# Altium footprint library RESC102X35X55L22N.PcbLib: 1 footprints
Each footprint in its own frame and in the unit in brackets; x right, y up, seen from the top. Pads: shape width x height; smd on the part's side, far side on the other; paste and mask are expansions set on the pad; w line width, h text height; cw(c..) or ccw(c..) is an arc to the next point about the centre after c.
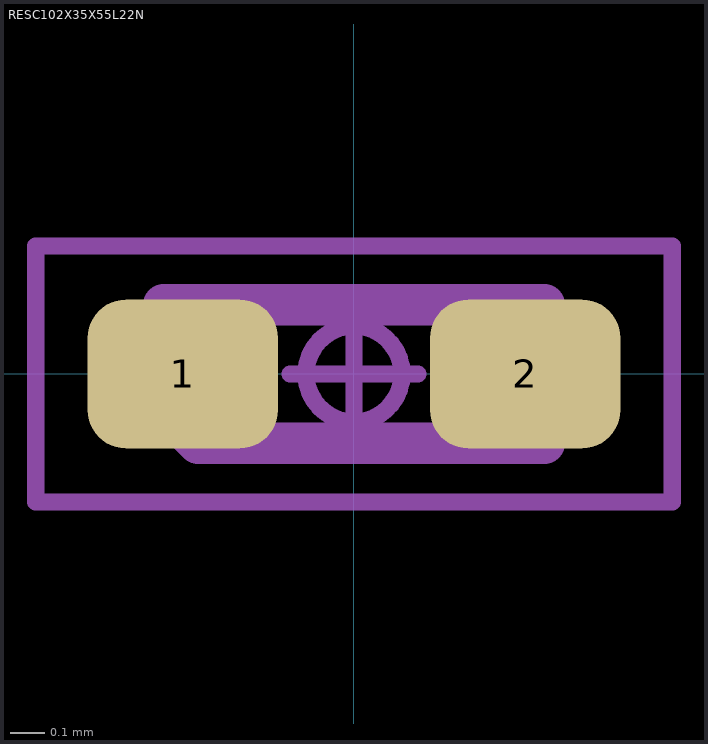
[diagram p0: the footprint, top view; thin cyan lines are the x and y axes]

## RESC102X35X55L22N [mm] "Resistor, Chip; 1.025 mm L X 0.35 mm W X 0.55 mm H body"
height 0.55
pads (2):
  rrect51% 0.55x0.43 smd: 1(-0.495,0) 2(0.495,0)
Mechanical 3:
  lines w0.12: -0.55,-0.1 -0.55,0.2 0.55,0.2 0.55,-0.2 -0.45,-0.2 -0.55,-0.1
Mechanical 5:
  lines w0.025: -0.513,-0.175 0.513,-0.175 ; -0.513,-0.175 -0.513,0.175 ; -0.513,-0.175 -0.513,0.175 ; -0.513,-0.175 -0.288,-0.175 -0.288,0.175 -0.513,0.175 ; -0.513,0.175 0.513,0.175 ; 0.513,-0.175 0.513,0.175 ; 0.513,-0.175 0.288,-0.175 0.288,0.175 0.513,0.175 ; 0.513,-0.175 0.513,0.175
Mechanical 7:
  circle w0.05: c0,0 r0.139
  lines w0.05: -0.185,0 0.185,0 ; 0,-0.185 0,0.185 ; -0.92,-0.37 0.92,-0.37 0.92,0.37 -0.92,0.37 -0.92,-0.37
Mechanical 9:
  text "'.Designator'" at -5.255,-0.229 h1
3D body: height 2, standoff 0.05, extent -0.925,-0.375 0.925,0.375
3D body "RESC102X35X55L22.STEP": height 0.55, standoff 0, extent -0.513,-0.175 0.513,0.175
3D body: height 1.04, standoff 0, extent -0.92,-0.37 0.92,0.37